# EAGLE library part HOEKSTEP23 (library Hoektronics)
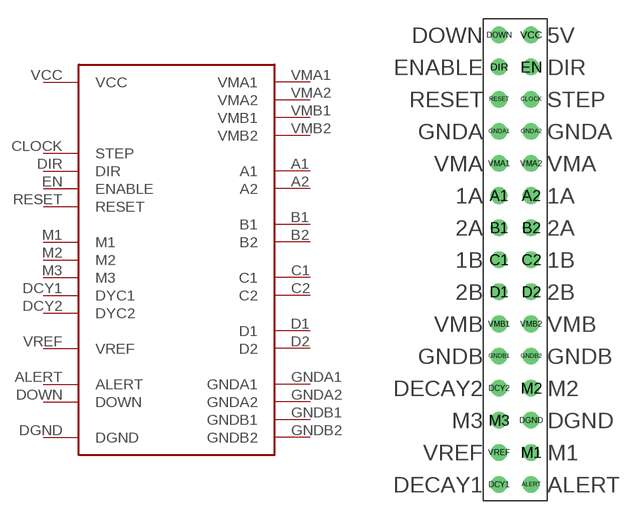
[diagram p2: symbol with the pads of HOEKSTEP23; footprint HOEKSTEP23]

Designator prefix M

## HOEKSTEP23  [HOEKSTEP23]
A1  A1
A2  A2
ALERT  ALERT
B1  B1
B2  B2
C1  C1
C2  C2
CLOCK  STEP
D1  D1
D2  D2
DCY1  DYC1
DCY2  DYC2
DGND  DGND
DIR  DIR
DOWN  DOWN
EN  ENABLE
GNDA1  GNDA1
GNDA2  GNDA2
GNDB1  GNDB1
GNDB2  GNDB2
M1  M1
M2  M2
M3  M3
RESET  RESET
VCC  VCC
VMA1  VMA1
VMA2  VMA2
VMB1  VMB1
VMB2  VMB2
VREF  VREF

## Footprint HOEKSTEP23 (pad centres in mm)
drill 0.8: A1 -1.27,3.81; A2 1.27,3.81; ALERT 1.27,-19.05; B1 -1.27,1.27; B2 1.27,1.27; C1 -1.27,-1.27; C2 1.27,-1.27; CLOCK 1.27,11.43; D1 -1.27,-3.81; D2 1.27,-3.81; DCY1 -1.27,-19.05; DCY2 -1.27,-11.43; DGND 1.27,-13.97; DIR -1.27,13.97; DOWN -1.27,16.51; EN 1.27,13.97; GNDA1 -1.27,8.89; GNDA2 1.27,8.89; GNDB1 -1.27,-8.89; GNDB2 1.27,-8.89; M1 1.27,-16.51; M2 1.27,-11.43; M3 -1.27,-13.97; RESET -1.27,11.43; VCC 1.27,16.51; VMA1 -1.27,6.35; VMA2 1.27,6.35; VMB1 -1.27,-6.35; VMB2 1.27,-6.35; VREF -1.27,-16.51